# Altium integrated library CC3220.IntLib: 1 symbol
Pins are listed as number, name and electrical type; pins without a type are passive.

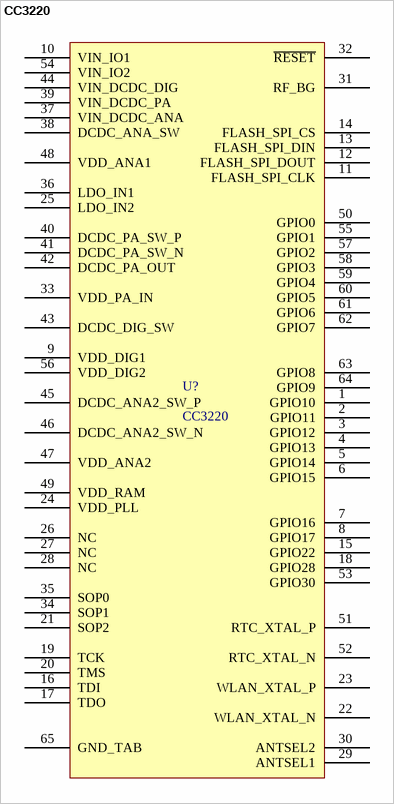
[diagram p0: symbol CC3220]

## CC3220
designator U?
WiFi IoT controller, TI
footprint PQFN50P900X900X100_HS-65N (PQFN, 64-Leads, Body 9.00x9.00mm, Pitch 0.50mm, Thermal Pad 6.30x6.30mm, IPC Medium Density)
pins: 1 GPIO10, 2 GPIO11, 3 GPIO12, 4 GPIO13, 5 GPIO14, 6 GPIO15, 7 GPIO16, 8 GPIO17, 9 VDD_DIG1, 10 VIN_IO1, 11 FLASH_SPI_CLK, 12 FLASH_SPI_DOUT, 13 FLASH_SPI_DIN, 14 FLASH_SPI_CS, 15 GPIO22, 16 TDI, 17 TDO, 18 GPIO28, 19 TCK, 20 TMS, 21 SOP2, 22 WLAN_XTAL_N, 23 WLAN_XTAL_P, 24 VDD_PLL, 25 LDO_IN2, 26 NC, 27 NC, 28 NC, 29 ANTSEL1, 30 ANTSEL2, 31 RF_BG, 32 ~{RESET}, 33 VDD_PA_IN, 34 SOP1, 35 SOP0, 36 LDO_IN1, 37 VIN_DCDC_ANA, 38 DCDC_ANA_SW, 39 VIN_DCDC_PA, 40 DCDC_PA_SW_P, 41 DCDC_PA_SW_N, 42 DCDC_PA_OUT, 43 DCDC_DIG_SW, 44 VIN_DCDC_DIG, 45 DCDC_ANA2_SW_P, 46 DCDC_ANA2_SW_N, 47 VDD_ANA2, 48 VDD_ANA1, 49 VDD_RAM, 50 GPIO0, 51 RTC_XTAL_P, 52 RTC_XTAL_N, 53 GPIO30, 54 VIN_IO2, 55 GPIO1, 56 VDD_DIG2, 57 GPIO2, 58 GPIO3, 59 GPIO4, 60 GPIO5, 61 GPIO6, 62 GPIO7, 63 GPIO8, 64 GPIO9, 65 GND_TAB